# Altium footprint library POWER IC.PcbLib: 4 footprints
Each footprint in its own frame and in the unit in brackets; x right, y up, seen from the top. Pads: shape width x height; smd on the part's side, far side on the other; paste and mask are expansions set on the pad; w line width, h text height; cw(c..) or ccw(c..) is an arc to the next point about the centre after c.
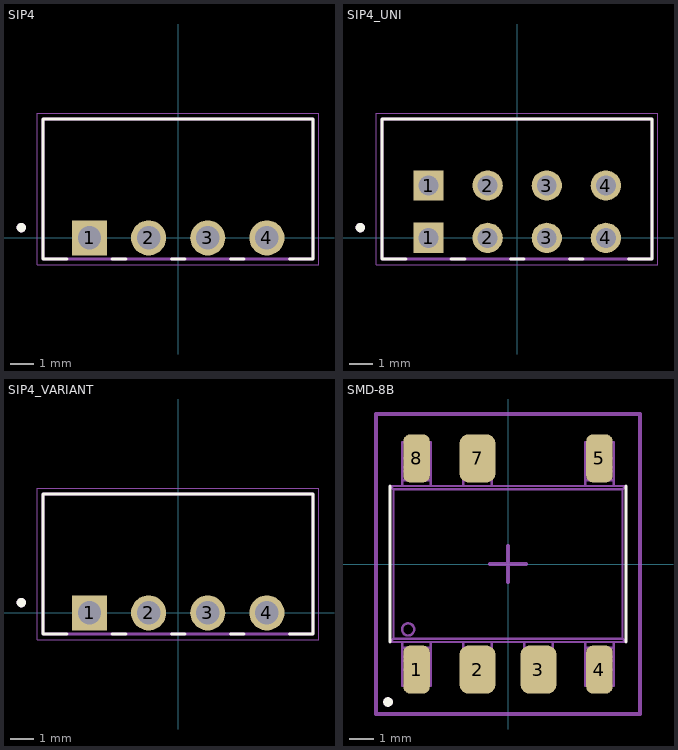
[diagram p0: the footprints below, top view; thin cyan lines are the x and y axes]

## SIP4 [mm] "SIP4 1W case"
height 10
pads (4):
  rect 1.508x1.508 hole 1: 1(-3.81,0)
  round 1.508 hole 1: 2(-1.27,0) 3(1.27,0) 4(3.81,0)
Top Overlay:
  circle w0.2: c-6.74,0.44 r0.1
  lines w0.127: -4.785,-0.9 -5.8,-0.9 -5.8,5.1 5.8,5.1 5.8,-0.9 4.785,-0.9 ; -2.835,-0.9 -2.245,-0.9 ; -0.295,-0.9 0.295,-0.9 ; 2.245,-0.9 2.835,-0.9
Top Assembly:
  circle w0.2: c-6.74,0.44 r0.1
  lines w0.127: -5.8,-0.9 -5.8,5.1 5.8,5.1 5.8,-0.9 -5.8,-0.9
Top Component Outline:
  lines w0.05: -6.05,-1.15 6.05,-1.15 6.05,5.35 -6.05,5.35 -6.05,-1.15
3D body "B0505S-1WR2--3DModel-STEP-56544.STEP": height 10.15, standoff -4.05, extent -5.8,-0.9 5.8,5.1

## SIP4_UNI [mm] "SIP4 1W case"
height 10
pads (8):
  rect 1.3x1.3 hole 0.85: 1(-3.81,0) 1(-3.81,2.25)
  round 1.3 hole 0.85: 2(-1.27,0) 2(-1.27,2.25) 3(1.27,0) 3(1.27,2.25) 4(3.81,0) 4(3.81,2.25)
Top Overlay:
  circle w0.2: c-6.74,0.44 r0.1
  lines w0.127: -4.785,-0.9 -5.8,-0.9 -5.8,5.1 5.8,5.1 5.8,-0.9 4.785,-0.9 ; -2.835,-0.9 -2.245,-0.9 ; -0.295,-0.9 0.295,-0.9 ; 2.245,-0.9 2.835,-0.9
Top Assembly:
  circle w0.2: c-6.74,0.44 r0.1
  lines w0.127: -5.8,-0.9 5.8,-0.9 5.8,5.1 -5.8,5.1 -5.8,-0.9
Top Component Outline:
  lines w0.05: -6.05,-1.15 -6.05,5.35 6.05,5.35 6.05,-1.15 -6.05,-1.15
3D body "B0505S-1WR2--3DModel-STEP-56544.STEP": height 10.15, standoff -4.05, extent -5.8,-0.9 5.8,5.1

## SIP4_VARIANT [mm] "SIP4 1W case"
height 10
pads (4):
  rect 1.508x1.508 hole 1: 1(-3.81,0)
  round 1.508 hole 1: 2(-1.27,0) 3(1.27,0) 4(3.81,0)
Top Overlay:
  circle w0.2: c-6.74,0.44 r0.1
  lines w0.127: -4.785,-0.9 -5.8,-0.9 -5.8,5.1 5.8,5.1 5.8,-0.9 4.785,-0.9 ; -2.835,-0.9 -2.245,-0.9 ; -0.295,-0.9 0.295,-0.9 ; 2.245,-0.9 2.835,-0.9
Top Assembly:
  circle w0.2: c-6.74,0.44 r0.1
  lines w0.127: -5.8,-0.9 5.8,-0.9 5.8,5.1 -5.8,5.1 -5.8,-0.9
Top Component Outline:
  lines w0.05: -6.05,-1.15 -6.05,5.35 6.05,5.35 6.05,-1.15 -6.05,-1.15
3D body "B0505S-1WR2--3DModel-STEP-56544.STEP": height 10.15, standoff -4.05, extent -5.8,-0.9 5.8,5.1

## SMD-8B [mm] "G Package (SMD-8B)"
height 3.68
pads (7):
  rrect50% 1.1x2 smd: 1(-3.81,-4.4) 4(3.81,-4.4) 5(3.81,4.4) 8(-3.81,4.4)
  rrect50% 1.5x2 smd: 2(-1.27,-4.4) 3(1.27,-4.4) 7(-1.27,4.4)
Top Overlay:
  circle w0.2: c-5,-5.75 r0.1
  lines w0.127: -4.915,-3.251 -4.915,3.251 ; 4.915,-3.251 4.915,3.251
Top Assembly:
  circle w0.2: c-5,-5.75 r0.1
  circle w0.1: c-4.161,-2.727 r0.254
  lines w0.1: -4.407,-3.251 -4.407,-3.488 ; -4.407,3.251 -4.407,3.488 ; -3.213,-3.251 -3.213,-3.488 ; -3.213,3.251 -3.213,3.488 ; -1.867,-3.251 -1.867,-3.488 ; -1.867,3.251 -1.867,3.488 ; -0.673,-3.251 -0.673,-3.488 ; -0.673,3.251 -0.673,3.488 ; 0.673,-3.251 0.673,-3.488 ; 1.867,-3.251 1.867,-3.488 ; 3.213,-3.251 3.213,-3.488 ; 3.213,3.251 3.213,3.488 ; 4.407,-3.251 4.407,-3.488 ; 4.407,3.251 4.407,3.488 ; -4.915,-3.251 4.915,-3.251 ; -4.915,-3.251 -4.77,-3.107 ; -4.915,-3.251 -4.915,3.251 ; -4.915,3.251 4.915,3.251 ; -4.915,3.251 -4.77,3.107 ; -4.77,-3.107 4.77,-3.107 ; -4.77,-3.107 -4.77,3.107 ; -4.77,3.107 4.77,3.107 ; -4.407,-4.411 -4.407,-4.036 ; -4.407,-4.411 -4.407,-5.08 -3.213,-5.08 -3.213,-4.411 ; -4.407,-4.411 -3.213,-4.411 ; -4.407,-4.036 -4.407,-3.864 ; -4.407,-4.036 -3.213,-4.036 ; -4.407,-3.864 -4.407,-3.488 ; -4.407,-3.864 -3.213,-3.864 ; -4.407,-3.488 -3.213,-3.488 ; -4.407,3.488 -4.407,3.864 ; -4.407,3.488 -3.213,3.488 ; -4.407,3.864 -4.407,4.036 ; -4.407,3.864 -3.213,3.864 ; -4.407,4.036 -4.407,4.411 ; -4.407,4.036 -3.213,4.036 ; -4.407,4.411 -4.407,5.08 -3.213,5.08 -3.213,4.411 ; -4.407,4.411 -3.213,4.411 ; -3.213,-4.411 -3.213,-4.036 ; -3.213,-4.036 -3.213,-3.864 ; -3.213,-3.864 -3.213,-3.488 ; -3.213,3.488 -3.213,3.864 ; -3.213,3.864 -3.213,4.036 ; -3.213,4.036 -3.213,4.411 ; -1.867,-4.411 -1.867,-4.036 ; -1.867,-4.411 -1.867,-5.08 -0.673,-5.08 -0.673,-4.411 ; -1.867,-4.411 -0.673,-4.411 ; -1.867,-4.036 -1.867,-3.864 ; -1.867,-4.036 -0.673,-4.036 ; -1.867,-3.864 -1.867,-3.488 ; -1.867,-3.864 -0.673,-3.864 ; -1.867,-3.488 -0.673,-3.488 ; -1.867,3.488 -1.867,3.864 ; -1.867,3.488 -0.673,3.488 ; -1.867,3.864 -1.867,4.036 ; -1.867,3.864 -0.673,3.864 ; -1.867,4.036 -1.867,4.411 ; -1.867,4.036 -0.673,4.036 ; -1.867,4.411 -1.867,5.08 -0.673,5.08 -0.673,4.411 ; -1.867,4.411 -0.673,4.411 ; -0.673,-4.411 -0.673,-4.036 ; -0.673,-4.036 -0.673,-3.864 ; -0.673,-3.864 -0.673,-3.488 ; -0.673,3.488 -0.673,3.864 ; -0.673,3.864 -0.673,4.036 ; -0.673,4.036 -0.673,4.411 ; 0.673,-4.411 0.673,-4.036 ; 0.673,-4.411 0.673,-5.08 1.867,-5.08 1.867,-4.411 ; 0.673,-4.411 1.867,-4.411 ; 0.673,-4.036 0.673,-3.864 ; 0.673,-4.036 1.867,-4.036 ; 0.673,-3.864 0.673,-3.488 ; 0.673,-3.864 1.867,-3.864 ; 0.673,-3.488 1.867,-3.488 ; 1.867,-4.411 1.867,-4.036 ; 1.867,-4.036 1.867,-3.864 ; 1.867,-3.864 1.867,-3.488 ; 3.213,-4.411 3.213,-4.036 ; 3.213,-4.411 3.213,-5.08 4.407,-5.08 4.407,-4.411 ; 3.213,-4.411 4.407,-4.411 ; 3.213,-4.036 3.213,-3.864 ; 3.213,-4.036 4.407,-4.036 ; 3.213,-3.864 3.213,-3.488 ; 3.213,-3.864 4.407,-3.864 ; 3.213,-3.488 4.407,-3.488 ; 3.213,3.488 3.213,3.864 ; 3.213,3.488 4.407,3.488 ; 3.213,3.864 3.213,4.036 ; 3.213,3.864 4.407,3.864 ; 3.213,4.036 3.213,4.411 ; 3.213,4.036 4.407,4.036 ; 3.213,4.411 3.213,5.08 4.407,5.08 4.407,4.411 ; 3.213,4.411 4.407,4.411 ; 4.407,-4.411 4.407,-4.036 ; 4.407,-4.036 4.407,-3.864 ; 4.407,-3.864 4.407,-3.488 ; 4.407,3.488 4.407,3.864 ; 4.407,3.864 4.407,4.036 ; 4.407,4.036 4.407,4.411 ; 4.77,-3.107 4.77,3.107 ; 4.77,-3.107 4.915,-3.251 ; 4.77,3.107 4.915,3.251 ; 4.915,-3.251 4.915,3.251
Top Component Outline:
  lines w0.15: -0.75,0 0.75,0 ; 0,-0.75 0,0.75 ; -5.5,-6.25 -5.5,6.25 5.5,6.25 5.5,-6.25 -5.5,-6.25
3D body "User Library-SMD-8B.STEP": height 4, standoff 0, extent -4.915,-4.9 4.935,4.9